# Altium schematic symbol library ANT_915.SchLib: 1 symbol
Pins are listed as number, name and electrical type; pins without a type are passive.

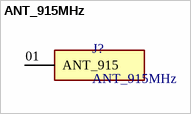
[diagram p0: symbol ANT_915MHz]

## ANT_915MHz
designator J?
MP: HTSW-101-24-LM-S; Availability: Unavailable; Package: None; Price: None; Value: *
footprint SAMTEC_HTSW-101-24-LM-S
pins: 01 ANT_915